# Altium footprint library LPEDT_revA1_bikeit.PcbLib: 45 footprints (part 2 of 3)
Each footprint in its own frame and in the unit in brackets; x right, y up, seen from the top. Pads: shape width x height; smd on the part's side, far side on the other; paste and mask are expansions set on the pad; w line width, h text height; cw(c..) or ccw(c..) is an arc to the next point about the centre after c.
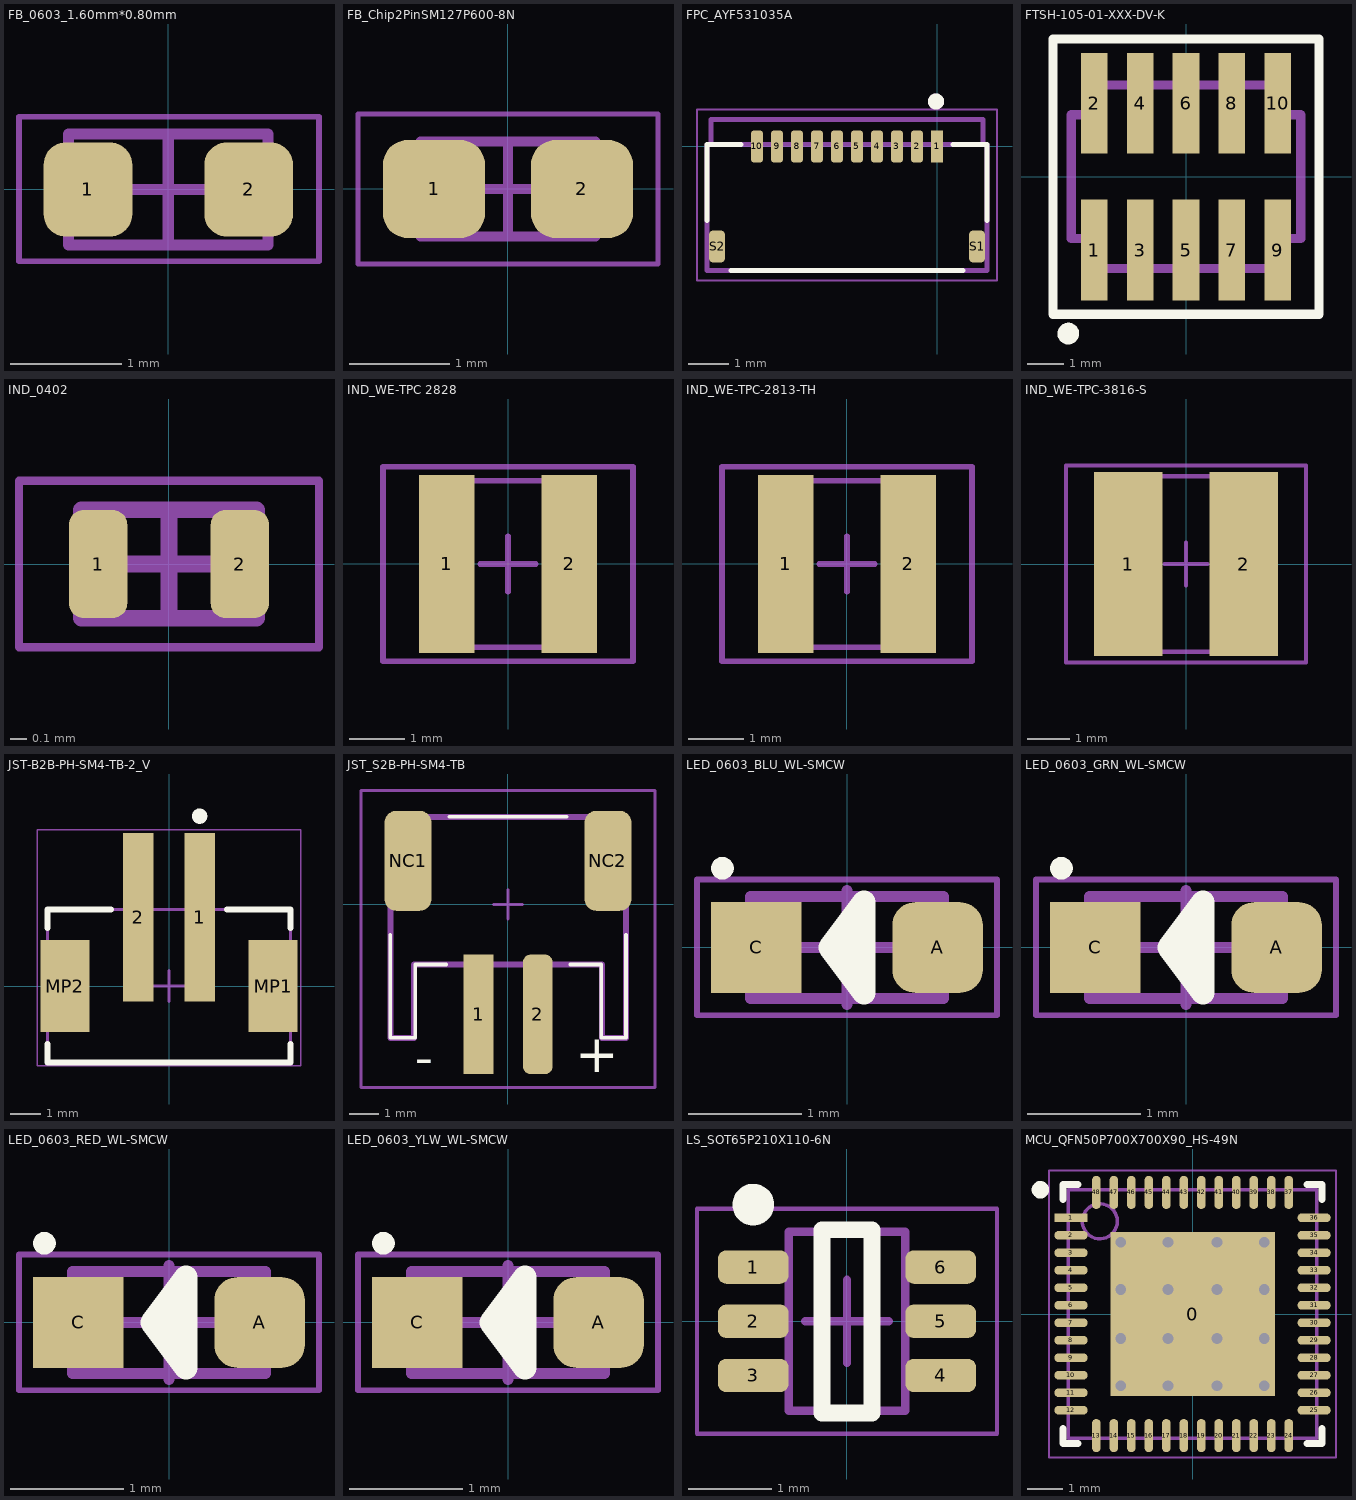
[diagram p1: the footprints below, top view; thin cyan lines are the x and y axes]

## FB_0603_1.60mm*0.80mm [mm] "Ferrite Bead, 2-Leads, Body 1.60x0.80mm, IPC Medium Density"
height 1
pads (2):
  rrect50% 0.8x0.85 smd: 1(-0.725,0) 2(0.725,0)
Mechanical 13:
  lines w0.1: -0.9,-0.5 0.9,-0.5 0.9,0.5 -0.9,0.5 -0.9,-0.5
  text ".Designator" at -0.783,-0.312 h0.2
Mechanical 15:
  lines w0.05: -1.347,-0.648 -1.347,0.656 1.36,0.656 1.36,-0.648 -1.347,-0.648
  lines w0.1: -0.5,0 0.5,0 ; 0,-0.5 0,0.5
3D body "74279260_Download_STP_WE-CBF-0603_rev1.stp": height 0.8, standoff 0, extent -0.8,-0.4 0.8,0.4

## FB_Chip2PinSM127P600-8N [mm]
height 0.95
pads (2):
  rrect50% 1.02x0.98 smd: 1(-0.74,0) 2(0.74,0)
Mechanical 13:
  lines w0.1: -0.875,-0.475 0.875,-0.475 0.875,0.475 -0.875,0.475 -0.875,-0.475
  text ".Designator" at -0.794,-0.332 h0.2
Mechanical 15:
  lines w0.05: -1.5,-0.75 1.5,-0.75 1.5,0.75 -1.5,0.75 -1.5,-0.75
  lines w0.1: -0.475,0 0.475,0 ; 0,-0.475 0,0.475
3D body: height 0.95, standoff 0, extent 0.475,-0.475 0.875,0.475
3D body: height 0.95, standoff 0, extent -0.875,-0.475 -0.475,0.475
3D body: height 0.95, standoff 0, extent -0.475,-0.475 0.475,0.475

## FPC_AYF531035A [mm]
pads (12):
  rect 0.3x0.8 smd mask+0.082: 1(0,0)
  rrect50% 0.3x0.8 smd mask+0.082: 2(-0.5,0) 3(-1,0) 4(-1.5,0) 5(-2,0) 6(-2.5,0) 7(-3,0) 8(-3.5,0) 9(-4,0) 10(-4.5,0)
  rrect50% 0.4x0.8 smd mask+0.082: S1(1,-2.5) S2(-5.5,-2.5)
Top Overlay:
  circle w0.2: c-0.025,1.125 r0.1
  lines w0.127: -5.75,-1.85 -5.75,0.05 -4.9,0.05 ; -5.15,-3.1 0.65,-3.1 ; 0.4,0.05 1.25,0.05 1.25,-1.85
Mechanical 13:
  circle w0.2: c-0.025,1.125 r0.1
  lines w0.127: -5.65,0.05 -5.75,0.05 -5.75,-3.1 1.25,-3.1 1.25,0.05 1.15,0.05 ; -5.65,0.05 1.15,0.05 ; -5.65,0.05 -5.65,0.68 1.15,0.68 1.15,0.05
  text ".Designator" at -4.98,-2.768 h0.5
Mechanical 15:
  lines w0.05: -6,-3.35 -6,0.925 1.5,0.925 1.5,-3.35 -6,-3.35
3D body "ayf531035-closed.step": height 1, standoff 0, extent -5.751,-2.968 1.249,0.732

## FTSH-105-01-XXX-DV-K [mil]
pads (10):
  rect 29x110 smd mask+2: 1(-100,-80) 2(-100,80) 3(-50,-80) 4(-50,80) 5(0,-80) 6(0,80) 7(50,-80) 8(50,80) 9(100,-80) 10(100,80)
Top Overlay:
  lines w10: -145,-150 145,-150 145,150 -145,150 -145,-150
  lines w11.81: -122.39,-171.52 cw(c-128.27,-171.01) -122.37,-171.01
Mechanical 1:
  lines w10: -125,-67.5 -100,-67.5 -100,-100 100,-100 100,-67.5 125,-67.5 125,67.5 100,67.5 100,100 -100,100 -100,67.5 -125,67.5 -125,-67.5
  text ".Designator" at -97.68,-8.48 h19.68
3D body "FTSH-105-01-LM-DV-K.stp": height 240.75, standoff -0.25, extent -124.99,-114.99 125,115

## IND_0402 [mm] "Chip Inductor, 2-Leads, Body 1.00x0.60mm, IPC Medium Density"
height 0.6
pads (2):
  rrect50% 0.35x0.65 smd: 1(-0.425,0) 2(0.425,0)
Mechanical 13:
  lines w0.1: -0.525,-0.325 0.525,-0.325 0.525,0.325 -0.525,0.325 -0.525,-0.325
  text ".Designator" at -0.439,-0.222 h0.2
Mechanical 15:
  lines w0.05: -0.9,-0.5 0.9,-0.5 0.9,0.5 -0.9,0.5 -0.9,-0.5
  lines w0.1: -0.325,0 0.325,0 ; 0,-0.325 0,0.325
3D body "IND_0402.step": height 0.6, standoff 0, extent -0.525,-0.325 0.525,0.325

## IND_WE-TPC 2828 [mm] "SMD Inductor, 2-Leads, Body 2,8x2,8mm"
height 3
pads (2):
  rect 1x3.2 smd: 1(-1.1,0) 2(1.1,0)
Mechanical 13:
  lines w0.1: -1.5,-1.5 1.5,-1.5 1.5,1.5 -1.5,1.5 -1.5,-1.5
  text ".Designator" at -1.076,-1.383 h0.2
Mechanical 15:
  lines w0.1: -0.5,0 0.5,0 ; 0,-0.5 0,0.5 ; -2.25,-1.75 2.25,-1.75 2.25,1.75 -2.25,1.75 -2.25,-1.75
3D body "744025xxx.stp": height 2.79, standoff -0.01, extent -1.4,-1.4 1.4,1.4

## IND_WE-TPC-2813-TH [mm] "SMD Inductor, 2-Leads, Body 2.8 x 2.8 mm"
height 1.5
pads (2):
  rect 1x3.2 smd: 1(-1.1,0) 2(1.1,0)
Mechanical 13:
  lines w0.1: -1.5,-1.5 -1.5,1.5 1.5,1.5 1.5,-1.5 -1.5,-1.5
Mechanical 15:
  lines w0.1: -0.5,0 0.5,0 ; 0,-0.5 0,0.5 ; -2.25,-1.75 -2.25,1.75 2.25,1.75 2.25,-1.75 -2.25,-1.75
3D body "744029001.stp": height 1.15, standoff -0.01, extent -1.38,-1.39 1.4,1.39

## IND_WE-TPC-3816-S [mm] "SMD Inductor, 2-Leads, Body 3.8 x 3.8 mm"
height 1.8
pads (2):
  rect 1.6x4.3 smd: 1(-1.35,0) 2(1.35,0)
Mechanical 13:
  lines w0.1: -2.05,-2.05 2.05,-2.05 2.05,2.05 -2.05,2.05 -2.05,-2.05
Mechanical 15:
  lines w0.1: -0.5,0 0.5,0 ; 0,-0.5 0,0.5 ; -2.8,-2.3 2.8,-2.3 2.8,2.3 -2.8,2.3 -2.8,-2.3
3D body "744031470.stp": height 1.64, standoff -0.01, extent -1.9,-1.9 1.9,1.9

## JST-B2B-PH-SM4-TB-2_V [mm] "SMD, 2-Leads, Body 7.95x5mm, Pitch 2mm"
height 6.6
pads (4):
  rect 1x5.5 smd: 1(1,2.25) 2(-1,2.25)
  rect 1.6x3 smd: MP1(3.4,0) MP2(-3.4,0)
Top Overlay:
  circle w0.25: c1,5.55 r0.125
  lines w0.2: -3.975,-1.9 -3.975,-2.5 3.975,-2.5 3.975,-1.9 ; -3.975,1.9 -3.975,2.5 -1.9,2.5 ; 1.9,2.5 3.95,2.5 ; 3.975,1.9 3.975,2.5
Mechanical 13:
  lines w0.1: -1.25,2.5 -1.25,4.5 -0.75,4.5 -0.75,2.5 ; 0.75,2.5 0.75,4.5 1.25,4.5 1.25,2.5 ; -3.975,-2.5 -0.325,-2.5 0.325,-2.5 3.975,-2.5 3.975,-1.1 3.925,-1.1 3.925,1.1 3.975,1.1 3.975,2.5 -3.975,2.5 -3.975,1.1 -3.925,1.1 -3.925,-1.1 -3.975,-1.1 -3.975,-2.5
  text ".Designator" at -2.921,-0.254 h1.7
Mechanical 15:
  lines w0.05: -4.3,-2.6 -4.3,5.1 4.3,5.1 4.3,-2.6 -4.3,-2.6
  lines w0.1: -0.5,0 0.5,0 ; 0,-0.5 0,0.5
3D body: height 6.6, standoff 0, extent -3.974,-0.049 3.974,2.499
3D body: height 6.6, standoff 0, extent -3.974,-2.499 -0.326,-0.851
3D body: height 6.6, standoff 0, extent 0.326,-2.499 3.974,-0.851
3D body: height 5.22, standoff 2, extent -1.249,-0.849 -0.751,-0.351
3D body: height 4.7, standoff 0, extent -3.075,-0.85 -2.3,-0.049
3D body: height 4.7, standoff 0, extent 2.3,-0.85 3.075,-0.05
3D body: height 5.22, standoff 2, extent 0.751,-0.849 1.249,-0.351
3D body: height 4, standoff 0, extent -3.324,-1.099 -3.076,1.099
3D body: height 0.25, standoff 0, extent -3.924,-1.099 -3.326,1.099
3D body: height 2, standoff 0, extent -2.301,-0.05 2.301,1.801
3D body: height 1.75, standoff 0, extent -0.325,-2.5 0.326,-1.7
3D body: height 2.35, standoff 0, extent -2.299,-1.699 2.299,-0.051
3D body: height 0.25, standoff 0, extent 3.326,-1.099 3.924,1.099
3D body: height 0.5, standoff 0, extent -1.249,2.501 -0.751,4.499
3D body: height 0.5, standoff 0, extent 0.751,2.501 1.249,4.499
3D body: height 4, standoff 0, extent 3.076,-1.099 3.324,1.099

## JST_S2B-PH-SM4-TB [mil]
pads (4):
  rect 40x160 smd: 1(-39.44,-147.2)
  rrect50% 40x160 smd: 2(39.93,-147.2)
  rrect50% 63x134 smd: NC1(-133.93,58.46) NC2(133.93,58.46)
Top Overlay:
  lines w5: -157.55,-40.43 -157.55,-178.7 -124.09,-178.7 -124.09,-80.28 -82.68,-80.28 ; -78.74,117.46 78.74,117.46 ; 83.52,-80.28 124.93,-80.28 124.93,-178.7 157.93,-178.7 157.93,-40.43
  text "-" at -125,-245 h86.8
  text "+" at 89.93,-241.54 h86.8
Mechanical 13:
  lines w8: -157.55,-178.7 -126.06,-178.7 -126.06,-80.28 125.93,-80.28 125.93,-178.7 157.93,-178.7 157.93,117.46 -157.55,117.46 -157.55,-178.7
  text ".Designator" at -115,-10 h66.93
Mechanical 15:
  lines w3.94: -19.69,0 19.68,0 ; 0,-19.68 0,19.69 ; -196.85,-245 -196.85,152.48 196.85,152.48 196.85,-245 -196.85,-245
3D body "S2B-PH-SM4-TB.STEP": height 219.54, standoff -0.94, extent -156.09,-215.83 154.93,122.76

## LED_0603_BLU_WL-SMCW [mm] "SODFL, 2-Leads, Body 0.80x1.80mm, IPC Medium Density"
height 0.8
pads (2):
  rrect50% 0.8x0.8 smd: A(0.8,0)
  rect 0.8x0.8 smd: C(-0.8,0)
Top Overlay:
  circle w0.1: c-1.1,0.7 r0.05
  lines w0.2: -0.15,0 0.05,0
  lines w0.205: -0.15,0 0.15,-0.4 0.15,0.4 -0.15,0
Mechanical 13:
  lines w0.1: -0.85,-0.45 -0.85,0.45 0.85,0.45 0.85,-0.45 -0.85,-0.45
  text ".Designator" at -0.723,-0.254 h0.5
Mechanical 15:
  lines w0.05: -1.325,-0.6 -1.325,0.6 1.325,0.6 1.325,-0.6 -1.325,-0.6
  lines w0.1: -0.5,0 0.5,0 ; 0,-0.5 0,0.5
3D body "LED Blue SMD 0603 Würth 150060BS55040.stp": height 0.4, standoff 0, extent -0.8,-0.4 0.8,0.4

## LED_0603_GRN_WL-SMCW [mm] "SODFL, 2-Leads, Body 0.80x1.80mm, IPC Medium Density"
height 0.8
pads (2):
  rrect50% 0.8x0.8 smd: A(0.8,0)
  rect 0.8x0.8 smd: C(-0.8,0)
Top Overlay:
  circle w0.1: c-1.1,0.7 r0.05
  lines w0.2: -0.15,0 0.05,0
  lines w0.205: -0.15,0 0.15,-0.4 0.15,0.4 -0.15,0
Mechanical 13:
  lines w0.1: -0.85,-0.45 -0.85,0.45 0.85,0.45 0.85,-0.45 -0.85,-0.45
  text ".Designator" at -0.723,-0.254 h0.5
Mechanical 15:
  lines w0.05: -1.325,-0.6 -1.325,0.6 1.325,0.6 1.325,-0.6 -1.325,-0.6
  lines w0.1: -0.5,0 0.5,0 ; 0,-0.5 0,0.5
3D body "LED Green SMD 0603 Würth 150060BS55040.stp": height 0.4, standoff 0, extent -0.8,-0.4 0.8,0.4

## LED_0603_RED_WL-SMCW [mm] "SODFL, 2-Leads, Body 0.80x1.80mm, IPC Medium Density"
height 0.8
pads (2):
  rrect50% 0.8x0.8 smd: A(0.8,0)
  rect 0.8x0.8 smd: C(-0.8,0)
Top Overlay:
  circle w0.1: c-1.1,0.7 r0.05
  lines w0.2: -0.15,0 0.05,0
  lines w0.205: -0.15,0 0.15,0.4 0.15,-0.4 -0.15,0
Mechanical 13:
  lines w0.1: -0.85,-0.45 0.85,-0.45 0.85,0.45 -0.85,0.45 -0.85,-0.45
  text ".Designator" at -0.723,-0.254 h0.5
Mechanical 15:
  lines w0.05: -1.325,-0.6 1.325,-0.6 1.325,0.6 -1.325,0.6 -1.325,-0.6
  lines w0.1: -0.5,0 0.5,0 ; 0,-0.5 0,0.5
3D body "LED Red SMD 0603 Würth 150060SS55040.stp": height 0.4, standoff 0, extent -0.8,-0.4 0.8,0.4

## LED_0603_YLW_WL-SMCW [mm] "SODFL, 2-Leads, Body 0.80x1.80mm, IPC Medium Density"
height 0.8
pads (2):
  rrect50% 0.8x0.8 smd: A(0.8,0)
  rect 0.8x0.8 smd: C(-0.8,0)
Top Overlay:
  circle w0.1: c-1.1,0.7 r0.05
  lines w0.2: -0.15,0 0.05,0
  lines w0.205: -0.15,0 0.15,-0.4 0.15,0.4 -0.15,0
Mechanical 13:
  lines w0.1: -0.85,-0.45 -0.85,0.45 0.85,0.45 0.85,-0.45 -0.85,-0.45
  text ".Designator" at -0.723,-0.254 h0.5
Mechanical 15:
  lines w0.05: -1.325,-0.6 -1.325,0.6 1.325,0.6 1.325,-0.6 -1.325,-0.6
  lines w0.1: -0.5,0 0.5,0 ; 0,-0.5 0,0.5
3D body "LED Yellow SMD 0603 Würth 150060YS55040.stp": height 0.4, standoff 0, extent -0.8,-0.4 0.8,0.4

## LS_SOT65P210X110-6N [mm] "SOT23, 6-Leads, Body 2.00x2.10mm, Pitch 0.65mm, IPC Medium Density"
height 1.1
pads (6):
  rrect50% 0.85x0.4 smd: 1(-1.125,0.65) 2(-1.125,0) 3(-1.125,-0.65) 4(1.125,-0.65) 5(1.125,0) 6(1.125,0.65)
Top Overlay:
  circle w0.25: c-1.125,1.4 r0.125
  lines w0.2: -0.3,-1.1 -0.3,1.1 0.3,1.1 0.3,-1.1 -0.3,-1.1
Mechanical 13:
  lines w0.1: -0.7,-1.075 0.7,-1.075 0.7,1.075 -0.7,1.075 -0.7,-1.075
  text ".Designator" at -0.569,-0.833 h0.2
Mechanical 15:
  lines w0.05: -1.8,-1.35 1.8,-1.35 1.8,1.35 -1.8,1.35 -1.8,-1.35
  lines w0.1: -0.5,0 0.5,0 ; 0,-0.5 0,0.5
3D body "SOT65P210X110-6N.step": height 1.1, standoff 0, extent -1.2,-1.075 1.2,1.075

## MCU_QFN50P700X700X90_HS-49N [mm] "QFN, 48-Leads, Body 7.00x7.00mm, Pitch 0.50mm, Thermal Pad 4.70x4.70mm, IPC Medium Density"
height 0.9
pads (49):
  rect 4.7x4.7 smd paste-3: 0(0,0)
  rect 0.95x0.25 smd: 1(-3.475,2.75)
  oval 0.95x0.25 smd: 2(-3.475,2.25) 3(-3.475,1.75) 4(-3.475,1.25) 5(-3.475,0.75) 6(-3.475,0.25) 7(-3.475,-0.25) 8(-3.475,-0.75) 9(-3.475,-1.25) 10(-3.475,-1.75) 11(-3.475,-2.25) 12(-3.475,-2.75) 25(3.475,-2.75) 26(3.475,-2.25) 27(3.475,-1.75) 28(3.475,-1.25) 29(3.475,-0.75) 30(3.475,-0.25) 31(3.475,0.25) 32(3.475,0.75) 33(3.475,1.25) 34(3.475,1.75) 35(3.475,2.25) 36(3.475,2.75)
  oval 0.25x0.95 smd: 13(-2.75,-3.475) 14(-2.25,-3.475) 15(-1.75,-3.475) 16(-1.25,-3.475) 17(-0.75,-3.475) 18(-0.25,-3.475) 19(0.25,-3.475) 20(0.75,-3.475) 21(1.25,-3.475) 22(1.75,-3.475) 23(2.25,-3.475) 24(2.75,-3.475) 37(2.75,3.475) 38(2.25,3.475) 39(1.75,3.475) 40(1.25,3.475) 41(0.75,3.475) 42(0.25,3.475) 43(-0.25,3.475) 44(-0.75,3.475) 45(-1.25,3.475) 46(-1.75,3.475) 47(-2.25,3.475) 48(-2.75,3.475)
via 2.05,2.05 diameter 0.559 hole 0.305
via 2.05,-2.05 diameter 0.559 hole 0.305
via 2.05,0.7 diameter 0.559 hole 0.305
via 2.05,-0.7 diameter 0.559 hole 0.305
via 0.7,-2.05 diameter 0.559 hole 0.305
via -0.7,-2.05 diameter 0.559 hole 0.305
via -0.7,-0.7 diameter 0.559 hole 0.305
via 0.7,-0.7 diameter 0.559 hole 0.305
via -2.05,0.7 diameter 0.559 hole 0.305
via -2.05,-0.7 diameter 0.559 hole 0.305
via -2.05,-2.05 diameter 0.559 hole 0.305
via -2.05,2.054 diameter 0.559 hole 0.305
via -0.7,2.05 diameter 0.559 hole 0.305
via 0.7,2.05 diameter 0.559 hole 0.305
via 0.7,0.7 diameter 0.559 hole 0.305
via -0.7,0.7 diameter 0.559 hole 0.305
Top Overlay:
  circle w0.25: c-4.35,3.55 r0.125
  lines w0.2: -3.7,-3.275 -3.7,-3.7 -3.275,-3.7 ; -3.7,3.275 -3.7,3.7 -3.275,3.7 ; 3.275,-3.7 3.7,-3.7 3.7,-3.275 ; 3.275,3.7 3.7,3.7 3.7,3.275
Top Paste:
  rectangle: 0.808,0.813 1.943,1.937
  rectangle: 0.808,-0.562 1.943,0.562
  rectangle: 0.808,-1.937 1.943,-0.813
  rectangle: -0.567,-1.937 0.567,-0.813
  rectangle: -0.567,-0.562 0.567,0.562
  rectangle: -0.567,0.813 0.567,1.937
  rectangle: -1.943,-1.937 -0.808,-0.813
  rectangle: -1.943,-0.562 -0.808,0.562
  rectangle: -1.943,0.813 -0.808,1.937
Mechanical 13:
  circle w0.1: c-2.65,2.65 r0.5
  lines w0.1: -3.55,-3.55 -3.55,3.55 3.55,3.55 3.55,-3.55 -3.55,-3.55
  text ".Designator" at -3.134,-2.968 h0.75
Mechanical 15:
  lines w0.05: -4.1,-4.1 -4.1,4.1 4.1,4.1 4.1,-4.1 -4.1,-4.1
  lines w0.1: -0.5,0 0.5,0 ; 0,-0.5 0,0.5
3D body "QFN50P700X700X90_HS-49N.step": height 0.9, standoff 0, extent -3.6,-3.6 3.6,3.6